# EAGLE library part SMF05C (library my_ic)
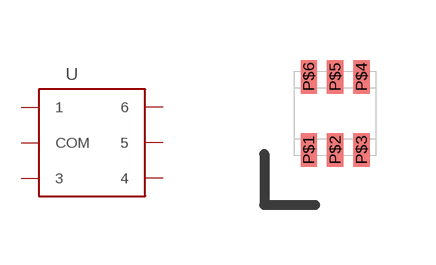
[diagram p12: symbol with the pads of SC70; footprint SC70]

Designator prefix -

## SMF05C  [SC70]
P$1  1  pas
P$2  COM  pas
P$3  3  pas
P$4  4  pas
P$5  5  pas
P$6  6  pas

## Footprint SC70 (pad centres in mm)
smd 0.406 x 0.838: P$1 -0.66,-0.914; P$2 0,-0.914; P$3 0.66,-0.914; P$4 0.66,0.914; P$5 0,0.914; P$6 -0.66,0.914